# EAGLE library part MAX31855 (library maxim)
Cold-Junction Compensated Thermocouple-to-Digital Converter
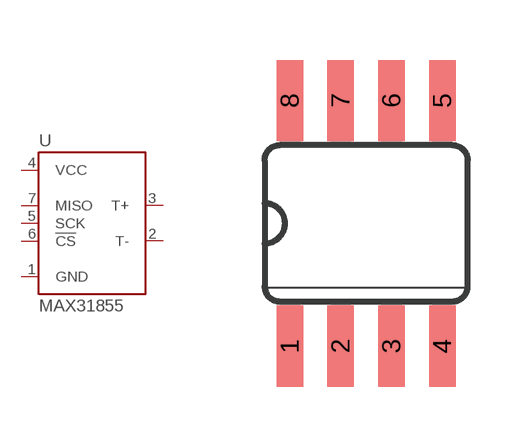
[diagram p0: symbol with the pads of SO08; footprint SO08]

Designator prefix U

## MAX31855  [SO08]
1  GND
2  T-
3  T+
4  VCC
5  SCK
6  !CS
7  MISO

## Footprint SO08 (pad centres in mm)
Small Outline Package SOIC 150 mil
smd 0.66 x 2.032: 1 -1.905,-3.073; 2 -0.635,-3.073; 3 0.635,-3.073; 4 1.905,-3.073; 5 1.905,3.073; 6 0.635,3.073; 7 -0.635,3.073; 8 -1.905,3.073